# Altium footprint library Microchip PIC16 Part 2.PcbLib: 70 footprints (part 1 of 5)
Each footprint in its own frame and in the unit in brackets; x right, y up, seen from the top. Pads: shape width x height; smd on the part's side, far side on the other; paste and mask are expansions set on the pad; w line width, h text height; cw(c..) or ccw(c..) is an arc to the next point about the centre after c.
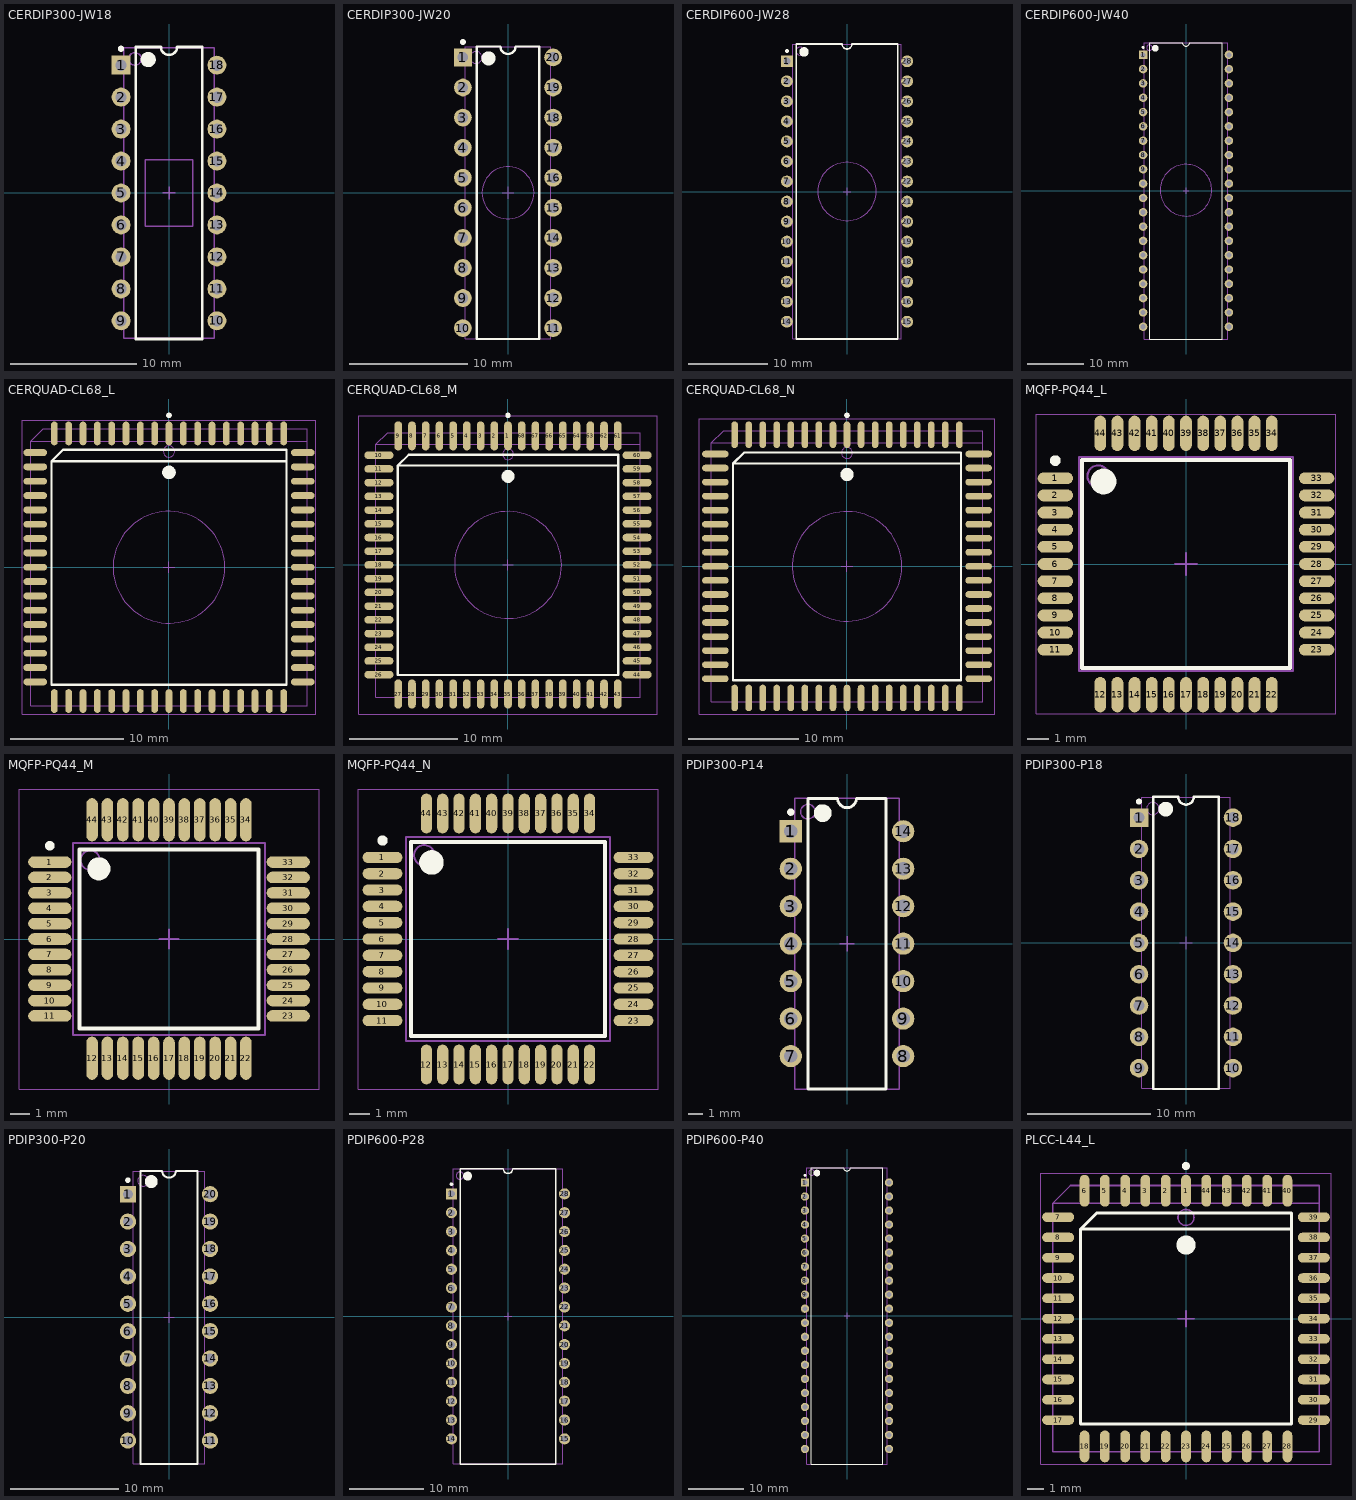
[diagram p0: the footprints below, top view; thin cyan lines are the x and y axes]

## CERDIP300-JW18 [mm] "DIP, 18-Leads, Row Spacing 7.62mm, Pitch 2.54mm, Body 22.8x7.3mm, Window"
height 5.08
pads (18):
  rect 1.5x1.5 hole 0.9: 1(-3.81,10.16)
  round 1.5 hole 0.9: 2(-3.81,7.62) 3(-3.81,5.08) 4(-3.81,2.54) 5(-3.81,0) 6(-3.81,-2.54) 7(-3.81,-5.08) 8(-3.81,-7.62) 9(-3.81,-10.16) 10(3.81,-10.16) 11(3.81,-7.62) 12(3.81,-5.08) 13(3.81,-2.54) 14(3.81,0) 15(3.81,2.54) 16(3.81,5.08) 17(3.81,7.62) 18(3.81,10.16)
Top Overlay:
  circle w0.25: c-3.81,11.46 r0.125
  circle w0.6: c-1.65,10.6 r0.3
  lines w0.2: -2.65,-11.6 -2.65,11.6 -0.635,11.6 ccw(c0,11.6) 0.635,11.6 2.65,11.6 2.65,-11.6 -2.65,-11.6
Mechanical 13:
  circle w0.1: c-2.7,10.65 r0.5
  lines w0.1: -3.6,-11.55 -3.6,11.55 3.6,11.55 3.6,-11.55 -3.6,-11.55 ; -1.9,-2.65 -1.9,2.65 1.9,2.65 1.9,-2.65 -1.9,-2.65
Mechanical 15:
  lines w0.1: -0.5,0 0.5,0 ; 0,-0.5 0,0.5
3D body: height 5.08, standoff 0.38, extent -3.599,-11.549 3.599,11.549

## CERDIP300-JW20 [mm] "DIP, 20-Leads, Row Spacing 7.62mm, Pitch 2.54mm, Body 24.3x7.3mm, Window"
height 5.08
pads (20):
  rect 1.5x1.5 hole 0.9: 1(-3.81,11.43)
  round 1.5 hole 0.9: 2(-3.81,8.89) 3(-3.81,6.35) 4(-3.81,3.81) 5(-3.81,1.27) 6(-3.81,-1.27) 7(-3.81,-3.81) 8(-3.81,-6.35) 9(-3.81,-8.89) 10(-3.81,-11.43) 11(3.81,-11.43) 12(3.81,-8.89) 13(3.81,-6.35) 14(3.81,-3.81) 15(3.81,-1.27) 16(3.81,1.27) 17(3.81,3.81) 18(3.81,6.35) 19(3.81,8.89) 20(3.81,11.43)
Top Overlay:
  circle w0.6: c-1.65,11.35 r0.3
  circle w0.25: c-3.81,12.73 r0.125
  lines w0.2: -2.65,-12.35 2.65,-12.35 2.65,12.35 0.635,12.35 cw(c0,12.35) -0.635,12.35 -2.65,12.35 -2.65,-12.35
Mechanical 13:
  circle w0.1: c-2.7,11.425 r0.5
  circle w0.1: c0,0 r2.2
  lines w0.1: -3.6,-12.325 3.6,-12.325 3.6,12.325 -3.6,12.325 -3.6,-12.325
Mechanical 15:
  lines w0.1: -0.5,0 0.5,0 ; 0,-0.5 0,0.5
3D body: height 5.08, standoff 0.38, extent -3.599,-12.324 3.599,12.324

## CERDIP600-JW28 [mm] "DIP, 28-Leads, Row Spacing 15.24mm, Pitch 2.54mm, Body 37x13.3mm, Window"
height 5.715
pads (28):
  rect 1.5x1.5 hole 0.9: 1(-7.62,16.51)
  round 1.5 hole 0.9: 2(-7.62,13.97) 3(-7.62,11.43) 4(-7.62,8.89) 5(-7.62,6.35) 6(-7.62,3.81) 7(-7.62,1.27) 8(-7.62,-1.27) 9(-7.62,-3.81) 10(-7.62,-6.35) 11(-7.62,-8.89) 12(-7.62,-11.43) 13(-7.62,-13.97) 14(-7.62,-16.51) 15(7.62,-16.51) 16(7.62,-13.97) 17(7.62,-11.43) 18(7.62,-8.89) 19(7.62,-6.35) 20(7.62,-3.81) 21(7.62,-1.27) 22(7.62,1.27) 23(7.62,3.81) 24(7.62,6.35) 25(7.62,8.89) 26(7.62,11.43) 27(7.62,13.97) 28(7.62,16.51)
Top Overlay:
  circle w0.25: c-7.62,17.81 r0.125
  circle w0.6: c-5.45,17.7 r0.3
  lines w0.2: -6.45,-18.7 -6.45,18.7 -0.635,18.7 ccw(c0,18.7) 0.635,18.7 6.45,18.7 6.45,-18.7 -6.45,-18.7
Mechanical 13:
  circle w0.1: c-5.95,17.798 r0.5
  circle w0.1: c0,0 r3.7
  lines w0.1: -6.85,-18.675 -6.85,18.675 6.85,18.675 6.85,-18.675 -6.85,-18.675
Mechanical 15:
  lines w0.1: -0.5,0 0.5,0 ; 0,-0.5 0,0.5
3D body: height 5.71, standoff 0.38, extent -6.849,-18.674 6.849,18.674

## CERDIP600-JW40 [mm] "DIP, 40-Leads, Row Spacing 15.24mm, Pitch 2.54mm, Body 52.1x13.9mm, Window"
height 5.715
pads (40):
  rect 1.5x1.5 hole 0.9: 1(-7.62,24.13)
  round 1.5 hole 0.9: 2(-7.62,21.59) 3(-7.62,19.05) 4(-7.62,16.51) 5(-7.62,13.97) 6(-7.62,11.43) 7(-7.62,8.89) 8(-7.62,6.35) 9(-7.62,3.81) 10(-7.62,1.27) 11(-7.62,-1.27) 12(-7.62,-3.81) 13(-7.62,-6.35) 14(-7.62,-8.89) 15(-7.62,-11.43) 16(-7.62,-13.97) 17(-7.62,-16.51) 18(-7.62,-19.05) 19(-7.62,-21.59) 20(-7.62,-24.13) 21(7.62,-24.13) 22(7.62,-21.59) 23(7.62,-19.05) 24(7.62,-16.51) 25(7.62,-13.97) 26(7.62,-11.43) 27(7.62,-8.89) 28(7.62,-6.35) 29(7.62,-3.81) 30(7.62,-1.27) 31(7.62,1.27) 32(7.62,3.81) 33(7.62,6.35) 34(7.62,8.89) 35(7.62,11.43) 36(7.62,13.97) 37(7.62,16.51) 38(7.62,19.05) 39(7.62,21.59) 40(7.62,24.13)
Top Overlay:
  circle w0.25: c-7.62,25.43 r0.125
  circle w0.6: c-5.45,25.3 r0.3
  lines w0.2: -6.45,-26.3 -6.45,26.3 -0.635,26.3 ccw(c0,26.3) 0.635,26.3 6.45,26.3 6.45,-26.3 -6.45,-26.3
Mechanical 13:
  circle w0.1: c0,0.1 r4.575
  circle w0.1: c-6.5,25.4 r0.5
  lines w0.1: -7.4,-26.3 -7.4,26.3 7.4,26.3 7.4,-26.3 -7.4,-26.3
Mechanical 15:
  lines w0.1: -0.5,0 0.5,0 ; 0,-0.5 0,0.5
3D body: height 5.71, standoff 0.38, extent -7.399,-26.299 7.399,26.299

## CERQUAD-CL68_L [mm] "Leaded Chip Carrier, 68-Leads, Body 24x24mm, Pitch 1.27mm, Window, IPC High Density"
height 4.83
pads (68):
  oval 0.6x2.1 smd: 1(0,11.85) 2(-1.27,11.85) 3(-2.54,11.85) 4(-3.81,11.85) 5(-5.08,11.85) 6(-6.35,11.85) 7(-7.62,11.85) 8(-8.89,11.85) 9(-10.16,11.85) 27(-10.16,-11.85) 28(-8.89,-11.85) 29(-7.62,-11.85) 30(-6.35,-11.85) 31(-5.08,-11.85) 32(-3.81,-11.85) 33(-2.54,-11.85) 34(-1.27,-11.85) 35(0,-11.85) 36(1.27,-11.85) 37(2.54,-11.85) 38(3.81,-11.85) 39(5.08,-11.85) 40(6.35,-11.85) 41(7.62,-11.85) 42(8.89,-11.85) 43(10.16,-11.85) 61(10.16,11.85) 62(8.89,11.85) 63(7.62,11.85) 64(6.35,11.85) 65(5.08,11.85) 66(3.81,11.85) 67(2.54,11.85) 68(1.27,11.85)
  oval 2.1x0.6 smd: 10(-11.85,10.16) 11(-11.85,8.89) 12(-11.85,7.62) 13(-11.85,6.35) 14(-11.85,5.08) 15(-11.85,3.81) 16(-11.85,2.54) 17(-11.85,1.27) 18(-11.85,0) 19(-11.85,-1.27) 20(-11.85,-2.54) 21(-11.85,-3.81) 22(-11.85,-5.08) 23(-11.85,-6.35) 24(-11.85,-7.62) 25(-11.85,-8.89) 26(-11.85,-10.16) 44(11.85,-10.16) 45(11.85,-8.89) 46(11.85,-7.62) 47(11.85,-6.35) 48(11.85,-5.08) 49(11.85,-3.81) 50(11.85,-2.54) 51(11.85,-1.27) 52(11.85,0) 53(11.85,1.27) 54(11.85,2.54) 55(11.85,3.81) 56(11.85,5.08) 57(11.85,6.35) 58(11.85,7.62) 59(11.85,8.89) 60(11.85,10.16)
Top Overlay:
  circle w0.6: c0,8.4 r0.3
  circle w0.25: c0,13.45 r0.125
  lines w0.2: 10.4,9.4 -10.4,9.4 ; -10.4,9.4 -10.4,-10.4 10.4,-10.4 10.4,10.4 -9.4,10.4 -10.4,9.4
Mechanical 13:
  circle w0.1: c0,0 r4.955
  circle w0.1: c0,10.255 r0.5
  lines w0.1: 12.255,11.155 -12.255,11.155 ; -12.255,11.155 -11.155,12.255 12.255,12.255 12.255,-12.255 -12.255,-12.255 -12.255,11.155
Mechanical 15:
  lines w0.05: -13,-13 13,-13 13,13 -13,13 -13,-13
  lines w0.1: -0.5,0 0.5,0 ; 0,-0.5 0,0.5
3D body: height 4.83, standoff 0.58, extent -12.255,-12.255 12.255,12.255

## CERQUAD-CL68_M [mm] "Leaded Chip Carrier, 68-Leads, Body 24x24mm, Pitch 1.27mm, Window, IPC Low Density"
height 4.83
pads (68):
  oval 0.7x2.7 smd: 1(0,11.95) 2(-1.27,11.95) 3(-2.54,11.95) 4(-3.81,11.95) 5(-5.08,11.95) 6(-6.35,11.95) 7(-7.62,11.95) 8(-8.89,11.95) 9(-10.16,11.95) 27(-10.16,-11.95) 28(-8.89,-11.95) 29(-7.62,-11.95) 30(-6.35,-11.95) 31(-5.08,-11.95) 32(-3.81,-11.95) 33(-2.54,-11.95) 34(-1.27,-11.95) 35(0,-11.95) 36(1.27,-11.95) 37(2.54,-11.95) 38(3.81,-11.95) 39(5.08,-11.95) 40(6.35,-11.95) 41(7.62,-11.95) 42(8.89,-11.95) 43(10.16,-11.95) 61(10.16,11.95) 62(8.89,11.95) 63(7.62,11.95) 64(6.35,11.95) 65(5.08,11.95) 66(3.81,11.95) 67(2.54,11.95) 68(1.27,11.95)
  oval 2.7x0.7 smd: 10(-11.95,10.16) 11(-11.95,8.89) 12(-11.95,7.62) 13(-11.95,6.35) 14(-11.95,5.08) 15(-11.95,3.81) 16(-11.95,2.54) 17(-11.95,1.27) 18(-11.95,0) 19(-11.95,-1.27) 20(-11.95,-2.54) 21(-11.95,-3.81) 22(-11.95,-5.08) 23(-11.95,-6.35) 24(-11.95,-7.62) 25(-11.95,-8.89) 26(-11.95,-10.16) 44(11.95,-10.16) 45(11.95,-8.89) 46(11.95,-7.62) 47(11.95,-6.35) 48(11.95,-5.08) 49(11.95,-3.81) 50(11.95,-2.54) 51(11.95,-1.27) 52(11.95,0) 53(11.95,1.27) 54(11.95,2.54) 55(11.95,3.81) 56(11.95,5.08) 57(11.95,6.35) 58(11.95,7.62) 59(11.95,8.89) 60(11.95,10.16)
Top Overlay:
  circle w0.25: c0,13.85 r0.125
  circle w0.6: c0,8.2 r0.3
  lines w0.2: 10.2,9.2 -10.2,9.2 ; -10.2,9.2 -9.2,10.2 10.2,10.2 10.2,-10.2 -10.2,-10.2 -10.2,9.2
Mechanical 13:
  circle w0.1: c0,0 r4.955
  circle w0.1: c0,10.255 r0.5
  lines w0.1: 12.255,11.155 -12.255,11.155 ; -12.255,11.155 -12.255,-12.255 12.255,-12.255 12.255,12.255 -11.155,12.255 -12.255,11.155
Mechanical 15:
  lines w0.05: -13.8,-13.8 -13.8,13.8 13.8,13.8 13.8,-13.8 -13.8,-13.8
  lines w0.1: -0.5,0 0.5,0 ; 0,-0.5 0,0.5
3D body: height 4.83, standoff 0.58, extent -12.255,-12.255 12.255,12.255

## CERQUAD-CL68_N [mm] "Leaded Chip Carrier, 68-Leads, Body 24x24mm, Pitch 1.27mm, Window, IPC Medium Density"
height 4.83
pads (68):
  oval 0.6x2.4 smd: 1(0,11.9) 2(-1.27,11.9) 3(-2.54,11.9) 4(-3.81,11.9) 5(-5.08,11.9) 6(-6.35,11.9) 7(-7.62,11.9) 8(-8.89,11.9) 9(-10.16,11.9) 27(-10.16,-11.9) 28(-8.89,-11.9) 29(-7.62,-11.9) 30(-6.35,-11.9) 31(-5.08,-11.9) 32(-3.81,-11.9) 33(-2.54,-11.9) 34(-1.27,-11.9) 35(0,-11.9) 36(1.27,-11.9) 37(2.54,-11.9) 38(3.81,-11.9) 39(5.08,-11.9) 40(6.35,-11.9) 41(7.62,-11.9) 42(8.89,-11.9) 43(10.16,-11.9) 61(10.16,11.9) 62(8.89,11.9) 63(7.62,11.9) 64(6.35,11.9) 65(5.08,11.9) 66(3.81,11.9) 67(2.54,11.9) 68(1.27,11.9)
  oval 2.4x0.6 smd: 10(-11.9,10.16) 11(-11.9,8.89) 12(-11.9,7.62) 13(-11.9,6.35) 14(-11.9,5.08) 15(-11.9,3.81) 16(-11.9,2.54) 17(-11.9,1.27) 18(-11.9,0) 19(-11.9,-1.27) 20(-11.9,-2.54) 21(-11.9,-3.81) 22(-11.9,-5.08) 23(-11.9,-6.35) 24(-11.9,-7.62) 25(-11.9,-8.89) 26(-11.9,-10.16) 44(11.9,-10.16) 45(11.9,-8.89) 46(11.9,-7.62) 47(11.9,-6.35) 48(11.9,-5.08) 49(11.9,-3.81) 50(11.9,-2.54) 51(11.9,-1.27) 52(11.9,0) 53(11.9,1.27) 54(11.9,2.54) 55(11.9,3.81) 56(11.9,5.08) 57(11.9,6.35) 58(11.9,7.62) 59(11.9,8.89) 60(11.9,10.16)
Top Overlay:
  circle w0.6: c0,8.3 r0.3
  circle w0.25: c0,13.65 r0.125
  lines w0.2: 10.3,9.3 -10.3,9.3 ; -10.3,9.3 -10.3,-10.3 10.3,-10.3 10.3,10.3 -9.3,10.3 -10.3,9.3
Mechanical 13:
  circle w0.1: c0,0 r4.955
  circle w0.1: c0,10.255 r0.5
  lines w0.1: 12.255,11.155 -12.255,11.155 ; -12.255,11.155 -11.155,12.255 12.255,12.255 12.255,-12.255 -12.255,-12.255 -12.255,11.155
Mechanical 15:
  lines w0.05: -13.35,-13.35 13.35,-13.35 13.35,13.35 -13.35,13.35 -13.35,-13.35
  lines w0.1: -0.5,0 0.5,0 ; 0,-0.5 0,0.5
3D body: height 4.83, standoff 0.58, extent -12.255,-12.255 12.255,12.255

## MQFP-PQ44_L [mm] "QFP, 44-Leads, Body 10x10mm, Pitch 0.8mm, IPC High Density"
height 2.45
pads (44):
  oval 1.65x0.55 smd: 1(-6.1,4) 2(-6.1,3.2) 3(-6.1,2.4) 4(-6.1,1.6) 5(-6.1,0.8) 6(-6.1,0) 7(-6.1,-0.8) 8(-6.1,-1.6) 9(-6.1,-2.4) 10(-6.1,-3.2) 11(-6.1,-4) 23(6.1,-4) 24(6.1,-3.2) 25(6.1,-2.4) 26(6.1,-1.6) 27(6.1,-0.8) 28(6.1,0) 29(6.1,0.8) 30(6.1,1.6) 31(6.1,2.4) 32(6.1,3.2) 33(6.1,4)
  oval 0.55x1.65 smd: 12(-4,-6.1) 13(-3.2,-6.1) 14(-2.4,-6.1) 15(-1.6,-6.1) 16(-0.8,-6.1) 17(0,-6.1) 18(0.8,-6.1) 19(1.6,-6.1) 20(2.4,-6.1) 21(3.2,-6.1) 22(4,-6.1) 34(4,6.1) 35(3.2,6.1) 36(2.4,6.1) 37(1.6,6.1) 38(0.8,6.1) 39(0,6.1) 40(-0.8,6.1) 41(-1.6,6.1) 42(-2.4,6.1) 43(-3.2,6.1) 44(-4,6.1)
Top Overlay:
  circle w0.25: c-6.1,4.825 r0.125
  circle w0.6: c-3.85,3.85 r0.3
  lines w0.2: -4.85,-4.85 -4.85,4.85 4.85,4.85 4.85,-4.85 -4.85,-4.85
Mechanical 13:
  circle w0.1: c-4.1,4.1 r0.5
  lines w0.1: -5,-5 -5,5 5,5 5,-5 -5,-5
Mechanical 15:
  lines w0.05: -7,-7 -7,7 7,7 7,-7 -7,-7
  lines w0.1: -0.5,0 0.5,0 ; 0,-0.5 0,0.5
3D body: height 2.45, standoff 0, extent -5,-5 5,5

## MQFP-PQ44_M [mm] "QFP, 44-Leads, Body 10x10mm, Pitch 0.8mm, IPC Low Density"
height 2.45
pads (44):
  oval 2.25x0.6 smd: 1(-6.2,4) 2(-6.2,3.2) 3(-6.2,2.4) 4(-6.2,1.6) 5(-6.2,0.8) 6(-6.2,0) 7(-6.2,-0.8) 8(-6.2,-1.6) 9(-6.2,-2.4) 10(-6.2,-3.2) 11(-6.2,-4) 23(6.2,-4) 24(6.2,-3.2) 25(6.2,-2.4) 26(6.2,-1.6) 27(6.2,-0.8) 28(6.2,0) 29(6.2,0.8) 30(6.2,1.6) 31(6.2,2.4) 32(6.2,3.2) 33(6.2,4)
  oval 0.6x2.25 smd: 12(-4,-6.2) 13(-3.2,-6.2) 14(-2.4,-6.2) 15(-1.6,-6.2) 16(-0.8,-6.2) 17(0,-6.2) 18(0.8,-6.2) 19(1.6,-6.2) 20(2.4,-6.2) 21(3.2,-6.2) 22(4,-6.2) 34(4,6.2) 35(3.2,6.2) 36(2.4,6.2) 37(1.6,6.2) 38(0.8,6.2) 39(0,6.2) 40(-0.8,6.2) 41(-1.6,6.2) 42(-2.4,6.2) 43(-3.2,6.2) 44(-4,6.2)
Top Overlay:
  circle w0.25: c-6.2,4.85 r0.125
  circle w0.6: c-3.65,3.65 r0.3
  lines w0.2: -4.65,-4.65 -4.65,4.65 4.65,4.65 4.65,-4.65 -4.65,-4.65
Mechanical 13:
  circle w0.1: c-4.1,4.1 r0.5
  lines w0.1: -5,-5 -5,5 5,5 5,-5 -5,-5
Mechanical 15:
  lines w0.05: -7.8,-7.8 -7.8,7.8 7.8,7.8 7.8,-7.8 -7.8,-7.8
  lines w0.1: -0.5,0 0.5,0 ; 0,-0.5 0,0.5
3D body: height 2.45, standoff 0, extent -5,-5 5,5

## MQFP-PQ44_N [mm] "QFP, 44-Leads, Body 10x10mm, Pitch 0.8mm, IPC Medium Density"
height 2.45
pads (44):
  oval 1.95x0.55 smd: 1(-6.15,4) 2(-6.15,3.2) 3(-6.15,2.4) 4(-6.15,1.6) 5(-6.15,0.8) 6(-6.15,0) 7(-6.15,-0.8) 8(-6.15,-1.6) 9(-6.15,-2.4) 10(-6.15,-3.2) 11(-6.15,-4) 23(6.15,-4) 24(6.15,-3.2) 25(6.15,-2.4) 26(6.15,-1.6) 27(6.15,-0.8) 28(6.15,0) 29(6.15,0.8) 30(6.15,1.6) 31(6.15,2.4) 32(6.15,3.2) 33(6.15,4)
  oval 0.55x1.95 smd: 12(-4,-6.15) 13(-3.2,-6.15) 14(-2.4,-6.15) 15(-1.6,-6.15) 16(-0.8,-6.15) 17(0,-6.15) 18(0.8,-6.15) 19(1.6,-6.15) 20(2.4,-6.15) 21(3.2,-6.15) 22(4,-6.15) 34(4,6.15) 35(3.2,6.15) 36(2.4,6.15) 37(1.6,6.15) 38(0.8,6.15) 39(0,6.15) 40(-0.8,6.15) 41(-1.6,6.15) 42(-2.4,6.15) 43(-3.2,6.15) 44(-4,6.15)
Top Overlay:
  circle w0.25: c-6.15,4.825 r0.125
  circle w0.6: c-3.75,3.75 r0.3
  lines w0.2: -4.75,-4.75 -4.75,4.75 4.75,4.75 4.75,-4.75 -4.75,-4.75
Mechanical 13:
  circle w0.1: c-4.1,4.1 r0.5
  lines w0.1: -5,-5 -5,5 5,5 5,-5 -5,-5
Mechanical 15:
  lines w0.05: -7.35,-7.35 -7.35,7.35 7.35,7.35 7.35,-7.35 -7.35,-7.35
  lines w0.1: -0.5,0 0.5,0 ; 0,-0.5 0,0.5
3D body: height 2.45, standoff 0, extent -5,-5 5,5

## PDIP300-P14 [mm] "DIP, 14-Leads, Row Spacing 7.62mm, Pitch 2.54mm, Body 19.2x6.6mm"
height 5.33
pads (14):
  rect 1.5x1.5 hole 0.9: 1(-3.81,7.62)
  round 1.5 hole 0.9: 2(-3.81,5.08) 3(-3.81,2.54) 4(-3.81,0) 5(-3.81,-2.54) 6(-3.81,-5.08) 7(-3.81,-7.62) 8(3.81,-7.62) 9(3.81,-5.08) 10(3.81,-2.54) 11(3.81,0) 12(3.81,2.54) 13(3.81,5.08) 14(3.81,7.62)
Top Overlay:
  circle w0.6: c-1.65,8.85 r0.3
  circle w0.25: c-3.81,8.92 r0.125
  lines w0.2: -2.65,-9.85 2.65,-9.85 2.65,9.85 0.635,9.85 cw(c0,9.85) -0.635,9.85 -2.65,9.85 -2.65,-9.85
Mechanical 13:
  circle w0.1: c-2.65,8.95 r0.5
  lines w0.1: -3.55,-9.85 3.55,-9.85 3.55,9.85 -3.55,9.85 -3.55,-9.85
Mechanical 15:
  lines w0.1: -0.5,0 0.5,0 ; 0,-0.5 0,0.5
3D body: height 5.33, standoff 0, extent -3.55,-9.85 3.55,9.85

## PDIP300-P18 [mm] "DIP, 18-Leads, Row Spacing 7.62mm, Pitch 2.54mm, Body 22.9x6.6mm"
height 5.33
pads (18):
  rect 1.5x1.5 hole 0.9: 1(-3.81,10.16)
  round 1.5 hole 0.9: 2(-3.81,7.62) 3(-3.81,5.08) 4(-3.81,2.54) 5(-3.81,0) 6(-3.81,-2.54) 7(-3.81,-5.08) 8(-3.81,-7.62) 9(-3.81,-10.16) 10(3.81,-10.16) 11(3.81,-7.62) 12(3.81,-5.08) 13(3.81,-2.54) 14(3.81,0) 15(3.81,2.54) 16(3.81,5.08) 17(3.81,7.62) 18(3.81,10.16)
Top Overlay:
  circle w0.25: c-3.81,11.46 r0.125
  circle w0.6: c-1.65,10.85 r0.3
  lines w0.2: -2.65,-11.85 -2.65,11.85 -0.635,11.85 ccw(c0,11.85) 0.635,11.85 2.65,11.85 2.65,-11.85 -2.65,-11.85
Mechanical 13:
  circle w0.1: c-2.7,10.9 r0.5
  lines w0.1: -3.6,-11.8 -3.6,11.8 3.6,11.8 3.6,-11.8 -3.6,-11.8
Mechanical 15:
  lines w0.1: -0.5,0 0.5,0 ; 0,-0.5 0,0.5
3D body: height 5.33, standoff 0, extent -3.6,-11.8 3.6,11.8

## PDIP300-P20 [mm] "DIP, 20-Leads, Row Spacing 7.62mm, Pitch 2.54mm, Body 25.9x6.6mm"
height 5.33
pads (20):
  rect 1.5x1.5 hole 0.9: 1(-3.81,11.43)
  round 1.5 hole 0.9: 2(-3.81,8.89) 3(-3.81,6.35) 4(-3.81,3.81) 5(-3.81,1.27) 6(-3.81,-1.27) 7(-3.81,-3.81) 8(-3.81,-6.35) 9(-3.81,-8.89) 10(-3.81,-11.43) 11(3.81,-11.43) 12(3.81,-8.89) 13(3.81,-6.35) 14(3.81,-3.81) 15(3.81,-1.27) 16(3.81,1.27) 17(3.81,3.81) 18(3.81,6.35) 19(3.81,8.89) 20(3.81,11.43)
Top Overlay:
  circle w0.6: c-1.65,12.6 r0.3
  circle w0.25: c-3.81,12.73 r0.125
  lines w0.2: -2.65,-13.6 2.65,-13.6 2.65,13.6 0.635,13.6 cw(c0,13.6) -0.635,13.6 -2.65,13.6 -2.65,-13.6
Mechanical 13:
  circle w0.1: c-2.4,12.675 r0.5
  lines w0.1: -3.3,-13.575 3.3,-13.575 3.3,13.575 -3.3,13.575 -3.3,-13.575
Mechanical 15:
  lines w0.1: -0.5,0 0.5,0 ; 0,-0.5 0,0.5
3D body: height 5.33, standoff 0, extent -3.3,-13.575 3.3,13.575

## PDIP600-P28 [mm] "DIP, 28-Leads, Row Spacing 15.24mm, Pitch 2.54mm, Body 37.4x13.5mm"
height 6.35
pads (28):
  rect 1.5x1.5 hole 0.9: 1(-7.62,16.51)
  round 1.5 hole 0.9: 2(-7.62,13.97) 3(-7.62,11.43) 4(-7.62,8.89) 5(-7.62,6.35) 6(-7.62,3.81) 7(-7.62,1.27) 8(-7.62,-1.27) 9(-7.62,-3.81) 10(-7.62,-6.35) 11(-7.62,-8.89) 12(-7.62,-11.43) 13(-7.62,-13.97) 14(-7.62,-16.51) 15(7.62,-16.51) 16(7.62,-13.97) 17(7.62,-11.43) 18(7.62,-8.89) 19(7.62,-6.35) 20(7.62,-3.81) 21(7.62,-1.27) 22(7.62,1.27) 23(7.62,3.81) 24(7.62,6.35) 25(7.62,8.89) 26(7.62,11.43) 27(7.62,13.97) 28(7.62,16.51)
Top Overlay:
  circle w0.6: c-5.45,18.9 r0.3
  circle w0.25: c-7.62,17.81 r0.125
  lines w0.2: -6.45,-19.9 6.45,-19.9 6.45,19.9 0.635,19.9 cw(c0,19.9) -0.635,19.9 -6.45,19.9 -6.45,-19.9
Mechanical 13:
  circle w0.1: c-6.475,18.975 r0.5
  lines w0.1: -7.375,-19.875 7.375,-19.875 7.375,19.875 -7.375,19.875 -7.375,-19.875
Mechanical 15:
  lines w0.1: -0.5,0 0.5,0 ; 0,-0.5 0,0.5
3D body: height 6.35, standoff 0, extent -7.375,-19.875 7.375,19.875

## PDIP600-P40 [mm] "DIP, 40-Leads, Row Spacing 15.24mm, Pitch 2.54mm, Body 51.8x13.5mm"
height 6.35
pads (40):
  rect 1.5x1.5 hole 0.9: 1(-7.62,24.13)
  round 1.5 hole 0.9: 2(-7.62,21.59) 3(-7.62,19.05) 4(-7.62,16.51) 5(-7.62,13.97) 6(-7.62,11.43) 7(-7.62,8.89) 8(-7.62,6.35) 9(-7.62,3.81) 10(-7.62,1.27) 11(-7.62,-1.27) 12(-7.62,-3.81) 13(-7.62,-6.35) 14(-7.62,-8.89) 15(-7.62,-11.43) 16(-7.62,-13.97) 17(-7.62,-16.51) 18(-7.62,-19.05) 19(-7.62,-21.59) 20(-7.62,-24.13) 21(7.62,-24.13) 22(7.62,-21.59) 23(7.62,-19.05) 24(7.62,-16.51) 25(7.62,-13.97) 26(7.62,-11.43) 27(7.62,-8.89) 28(7.62,-6.35) 29(7.62,-3.81) 30(7.62,-1.27) 31(7.62,1.27) 32(7.62,3.81) 33(7.62,6.35) 34(7.62,8.89) 35(7.62,11.43) 36(7.62,13.97) 37(7.62,16.51) 38(7.62,19.05) 39(7.62,21.59) 40(7.62,24.13)
Top Overlay:
  circle w0.25: c-7.62,25.43 r0.125
  circle w0.6: c-5.45,25.85 r0.3
  lines w0.2: -6.45,-26.85 -6.45,26.85 -0.635,26.85 ccw(c0,26.85) 0.635,26.85 6.45,26.85 6.45,-26.85 -6.45,-26.85
Mechanical 13:
  circle w0.1: c-6.4,25.95 r0.5
  lines w0.1: -7.3,-26.85 -7.3,26.85 7.3,26.85 7.3,-26.85 -7.3,-26.85
Mechanical 15:
  lines w0.1: -0.5,0 0.5,0 ; 0,-0.5 0,0.5
3D body: height 6.35, standoff 0, extent -7.3,-26.85 7.3,26.85

## PLCC-L44_L [mm] "Leaded Chip Carrier, 44-Leads, Body 16.6x16.6mm, Pitch 1.27mm, IPC High Density"
height 4.58
pads (44):
  oval 0.6x2 smd: 1(0,8) 2(-1.27,8) 3(-2.54,8) 4(-3.81,8) 5(-5.08,8) 6(-6.35,8) 18(-6.35,-8) 19(-5.08,-8) 20(-3.81,-8) 21(-2.54,-8) 22(-1.27,-8) 23(0,-8) 24(1.27,-8) 25(2.54,-8) 26(3.81,-8) 27(5.08,-8) 28(6.35,-8) 40(6.35,8) 41(5.08,8) 42(3.81,8) 43(2.54,8) 44(1.27,8)
  oval 2x0.6 smd: 7(-8,6.35) 8(-8,5.08) 9(-8,3.81) 10(-8,2.54) 11(-8,1.27) 12(-8,0) 13(-8,-1.27) 14(-8,-2.54) 15(-8,-3.81) 16(-8,-5.08) 17(-8,-6.35) 29(8,-6.35) 30(8,-5.08) 31(8,-3.81) 32(8,-2.54) 33(8,-1.27) 34(8,0) 35(8,1.27) 36(8,2.54) 37(8,3.81) 38(8,5.08) 39(8,6.35)
Top Overlay:
  circle w0.25: c0,9.55 r0.125
  circle w0.6: c0,4.6 r0.3
  lines w0.2: 6.6,5.6 -6.6,5.6 ; -6.6,5.6 -5.6,6.6 6.6,6.6 6.6,-6.6 -6.6,-6.6 -6.6,5.6
Mechanical 13:
  circle w0.1: c0,6.33 r0.5
  lines w0.1: 8.33,7.23 -8.33,7.23 ; -8.33,7.23 -8.33,-8.33 8.33,-8.33 8.33,8.33 -7.23,8.33 -8.33,7.23
Mechanical 15:
  lines w0.05: -9.1,-9.1 -9.1,9.1 9.1,9.1 9.1,-9.1 -9.1,-9.1
  lines w0.1: -0.5,0 0.5,0 ; 0,-0.5 0,0.5
3D body: height 4.58, standoff 0.51, extent -8.33,-8.33 8.33,8.33